# Altium schematic symbol library w25q128.SchLib: 1 symbol
Pins are listed as number, name and electrical type; pins without a type are passive.

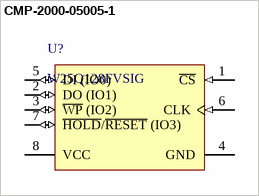
[diagram p0: symbol CMP-2000-05005-1]

## CMP-2000-05005-1
designator U?, comment W25Q128FVSIG
3V 128M-Bit Serial Flash Memory with Dual/Quad SPI & QPI, 2.7 to 3.6 V, -40 to 85 degC, 8-Pin SOIC, RoHS, Tape and Reel; Manufacturer: Winbond; Number of Words: 16777216; Address Bus: 24b; Word Size: 8b; Boot Type: NotRequired; Supply Current: 20mA; Operating Supply Voltage (Max): 3.6V; Sync/Async: Synchronous; Rad Hardened: No; Interface Type: Serial(SPI); Access Time (Max): 7ns; Operating Supply Voltage (Min): 2.7V; Operating Supply Voltage (Typ): 3/3.3V; Programmable: Yes; Density: 134217728Bit; Cell Type: NOR; Package Description: 8-Pin Small Outline Integrated Circuit, Body 5.28 x 5.28 mm, Pitch 1.27 mm; Datasheet URL: http://download.siliconexpert.com/pdfs/2015/11/30/6/42/17/890/win_/manual/3w25q128fv20rev.l2008242015.pdf; Package Reference: SS-8; Package Type: SOICW; Datasheet Version: Rev. L, 08/2015; Manufacturer URL: http://www.winbond.com/hq/index.html?__locale=en; Pin Count: 8; Operating Temperature Classification: Industrial; Operating Temperature (Min): -40C; Program/Erase Volt (Typ): 2.7to3.6V; Operating Temperature (Max): 85C; Mounting: SurfaceMount; Operating Temp Range: -40Cto85C
footprint WINB-SOIC-8_N (SOIC, 8-Leads, Body 5.4x5.4mm, Pitch 1.27mm, IPC Medium Density)
footprint WINB-SOIC-8_L (SOIC, 8-Leads, Body 5.4x5.4mm, Pitch 1.27mm, IPC High Density)
footprint WINB-SOIC-8_M (SOIC, 8-Leads, Body 5.4x5.4mm, Pitch 1.27mm, IPC Low Density)
pins: 1 ~{CS} (in) "Chip Select Input.", 2 DO (IO1) (io) "Data Output (Data Input Output 1).", 3 ~{WP} (IO2) (io) "Write Protect Input (Data Input Output 2).", 4 GND (power) "Ground.", 5 DI (IO0) (io) "Data Input (Data Input Output 0).", 6 CLK (in) "Serial Clock Input.", 7 ~{HOLD}/~{RESET} (IO3) (io) "Hold or Reset Input (Data Input Output 3).", 8 VCC (power) "Power Supply."